# EAGLE library part TM4C_BP (library EE445L)
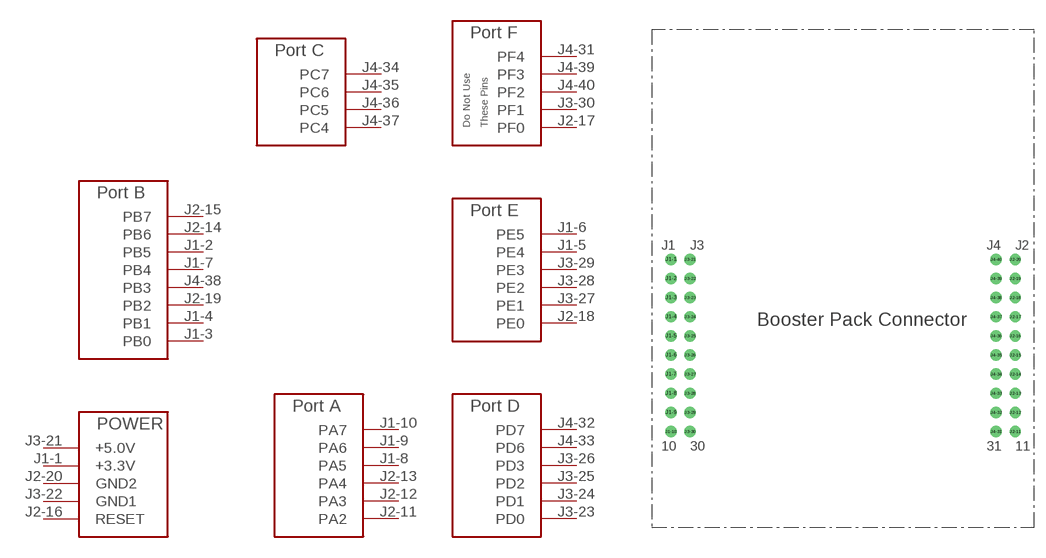
[diagram p23: symbol with the pads of TM4C_BOOSTER_PACK; footprint TM4C_BOOSTER_PACK]

Designator prefix -; gates G$1=BP_PORT_A G$2=BP_PORT_B G$3=BP_PORT_C G$4=BP_PORT_D G$5=BP_PORT_E G$6=BP_PORT_F G$7=BP_PORT_PWR

## TM4C_BP  [TM4C_BOOSTER_PACK]
J1-1  G$7:+3.3V
J1-2  G$2:PB5
J1-3  G$2:PB0
J1-4  G$2:PB1
J1-5  G$5:PE4
J1-6  G$5:PE5
J1-7  G$2:PB4
J1-8  G$1:PA5
J1-9  G$1:PA6
J1-10  G$1:PA7
J2-11  G$1:PA2
J2-12  G$1:PA3
J2-13  G$1:PA4
J2-14  G$2:PB6
J2-15  G$2:PB7
J2-16  G$7:RESET
J2-17  G$6:PF0
J2-18  G$5:PE0
J2-19  G$2:PB2
J2-20  G$7:GND2
J3-21  G$7:+5.0V
J3-22  G$7:GND1
J3-23  G$4:PD0
J3-24  G$4:PD1
J3-25  G$4:PD2
J3-26  G$4:PD3
J3-27  G$5:PE1
J3-28  G$5:PE2
J3-29  G$5:PE3
J3-30  G$6:PF1
J4-31  G$6:PF4
J4-32  G$4:PD7
J4-33  G$4:PD6
J4-34  G$3:PC7
J4-35  G$3:PC6
J4-36  G$3:PC5
J4-37  G$3:PC4
J4-38  G$2:PB3
J4-39  G$6:PF3
J4-40  G$6:PF2

## Footprint TM4C_BOOSTER_PACK (pad centres in mm)
drill 1: J1-1 0,22.86; J1-2 0,20.32; J1-3 0,17.78; J1-4 0,15.24; J1-5 0,12.7; J1-6 0,10.16; J1-7 0,7.62; J1-8 0,5.08; J1-9 0,2.54; J1-10 0,0; J2-11 45.72,0; J2-12 45.72,2.54; J2-13 45.72,5.08; J2-14 45.72,7.62; J2-15 45.72,10.16; J2-16 45.72,12.7; J2-17 45.72,15.24; J2-18 45.72,17.78; J2-19 45.72,20.32; J2-20 45.72,22.86; J3-21 2.54,22.86; J3-22 2.54,20.32; J3-23 2.54,17.78; J3-24 2.54,15.24; J3-25 2.54,12.7; J3-26 2.54,10.16; J3-27 2.54,7.62; J3-28 2.54,5.08; J3-29 2.54,2.54; J3-30 2.54,0; J4-31 43.18,0; J4-32 43.18,2.54; J4-33 43.18,5.08; J4-34 43.18,7.62; J4-35 43.18,10.16; J4-36 43.18,12.7; J4-37 43.18,15.24; J4-38 43.18,17.78; J4-39 43.18,20.32; J4-40 43.18,22.86